# EAGLE library part MK3DS1/12-3,81 (library untitled)
36-polige, dreistckige Reihenklemme im Raster 3.81mm Typ Phoenix MK3DS 1/12-3,81, Artikelnummer 1727832
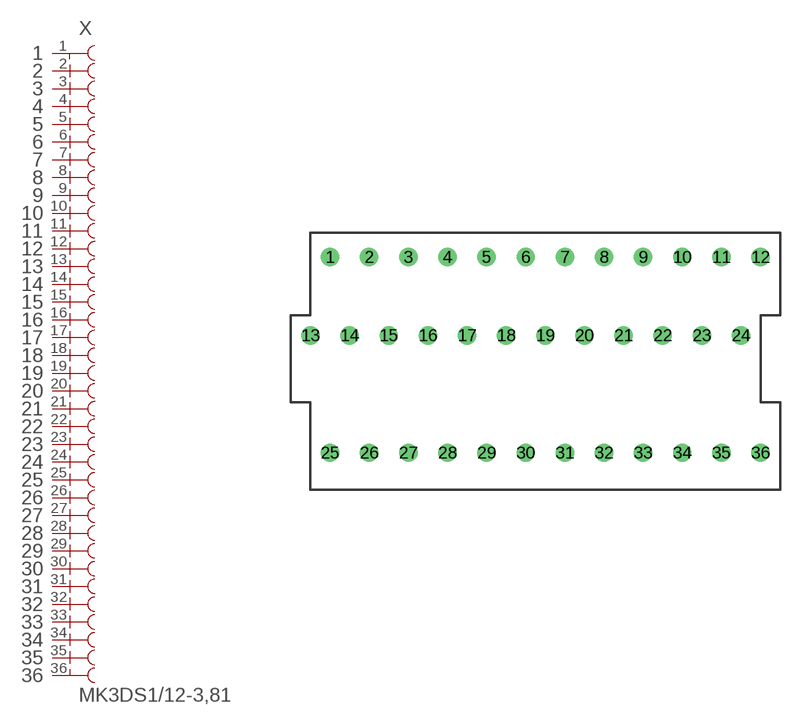
[diagram p10: symbol with the pads of MK3DS1/12; footprint MK3DS1/12]

Designator prefix X

## MK3DS1/12-3,81  [MK3DS1/12]
1  1  pas
2  2  pas
3  3  pas
4  4  pas
5  5  pas
6  6  pas
7  7  pas
8  8  pas
9  9  pas
10  10  pas
11  11  pas
12  12  pas
13  13  pas
14  14  pas
15  15  pas
16  16  pas
17  17  pas
18  18  pas
19  19  pas
20  20  pas
21  21  pas
22  22  pas
23  23  pas
24  24  pas
25  25  pas
26  26  pas
27  27  pas
28  28  pas
29  29  pas
30  30  pas
31  31  pas
32  32  pas
33  33  pas
34  34  pas
35  35  pas
36  36  pas

## Footprint MK3DS1/12 (pad centres in mm)
36-polige, dreistckige Reihenklemme Phoenix MK3DS1/12
drill 1.194 pad 1.778 round: 1 0,19.05; 2 3.81,19.05; 3 7.62,19.05; 4 11.43,19.05; 5 15.24,19.05; 6 19.05,19.05; 7 22.86,19.05; 8 26.67,19.05; 9 30.48,19.05; 10 34.29,19.05; 11 38.1,19.05; 12 41.91,19.05; 13 -1.905,11.43; 14 1.905,11.43; 15 5.715,11.43; 16 9.525,11.43; 17 13.335,11.43; 18 17.145,11.43; 19 20.955,11.43; 20 24.765,11.43; 21 28.575,11.43; 22 32.385,11.43; 23 36.195,11.43; 24 40.005,11.43; 25 0,0; 26 3.81,0; 27 7.62,0; 28 11.43,0; 29 15.24,0; 30 19.05,0; 31 22.86,0; 32 26.67,0; 33 30.48,0; 34 34.29,0; 35 38.1,0; 36 41.91,0